# Altium footprint library MLACHM_M.PCBLIB: 91 footprints (part 6 of 7)
Each footprint in its own frame and in the unit in brackets; x right, y up, seen from the top. Pads: shape width x height; smd on the part's side, far side on the other; paste and mask are expansions set on the pad; w line width, h text height; cw(c..) or ccw(c..) is an arc to the next point about the centre after c.
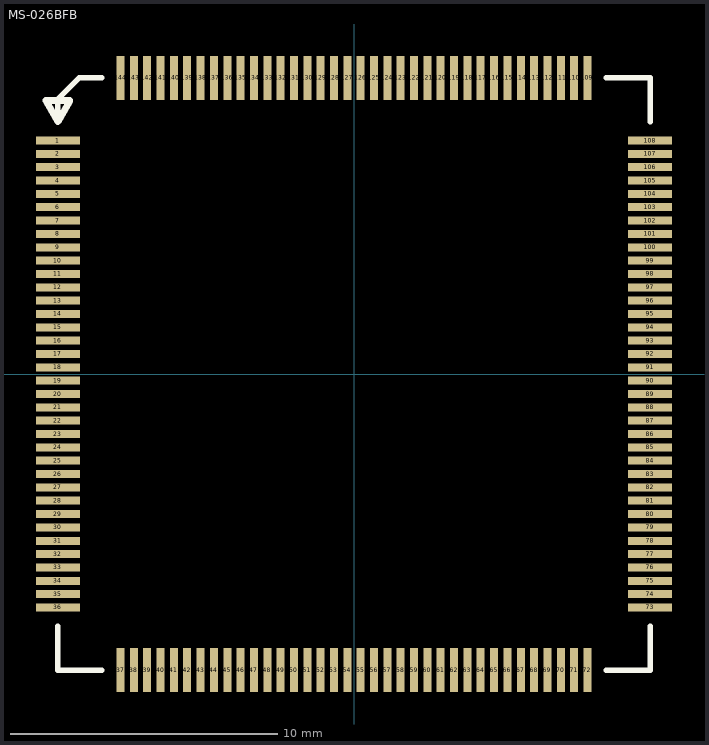
[diagram p5: the footprint, top view; thin cyan lines are the x and y axes]

## MS-026BFB [mm]
pads (144):
  rect 1.651x0.3 smd: 1(-11.1,8.75) 2(-11.1,8.25) 3(-11.1,7.75) 4(-11.1,7.25) 5(-11.1,6.75) 6(-11.1,6.25) 7(-11.1,5.75) 8(-11.1,5.25) 9(-11.1,4.75) 10(-11.1,4.25) 11(-11.1,3.75) 12(-11.1,3.25) 13(-11.1,2.75) 14(-11.1,2.25) 15(-11.1,1.75) 16(-11.1,1.25) 17(-11.1,0.75) 18(-11.1,0.25) 19(-11.1,-0.25) 20(-11.1,-0.75) 21(-11.1,-1.25) 22(-11.1,-1.75) 23(-11.1,-2.25) 24(-11.1,-2.75) 25(-11.1,-3.25) 26(-11.1,-3.75) 27(-11.1,-4.25) 28(-11.1,-4.75) 29(-11.1,-5.25) 30(-11.1,-5.75) 31(-11.1,-6.25) 32(-11.1,-6.75) 33(-11.1,-7.25) 34(-11.1,-7.75) 35(-11.1,-8.25) 36(-11.1,-8.75) 73(11.1,-8.75) 74(11.1,-8.25) 75(11.1,-7.75) 76(11.1,-7.25) 77(11.1,-6.75) 78(11.1,-6.25) 79(11.1,-5.75) 80(11.1,-5.25) 81(11.1,-4.75) 82(11.1,-4.25) 83(11.1,-3.75) 84(11.1,-3.25) 85(11.1,-2.75) 86(11.1,-2.25) 87(11.1,-1.75) 88(11.1,-1.25) 89(11.1,-0.75) 90(11.1,-0.25) 91(11.1,0.25) 92(11.1,0.75) 93(11.1,1.25) 94(11.1,1.75) 95(11.1,2.25) 96(11.1,2.75) 97(11.1,3.25) 98(11.1,3.75) 99(11.1,4.25) 100(11.1,4.75) 101(11.1,5.25) 102(11.1,5.75) 103(11.1,6.25) 104(11.1,6.75) 105(11.1,7.25) 106(11.1,7.75) 107(11.1,8.25) 108(11.1,8.75)
  rect 0.3x1.651 smd: 37(-8.75,-11.1) 38(-8.25,-11.1) 39(-7.75,-11.1) 40(-7.25,-11.1) 41(-6.75,-11.1) 42(-6.25,-11.1) 43(-5.75,-11.1) 44(-5.25,-11.1) 45(-4.75,-11.1) 46(-4.25,-11.1) 47(-3.75,-11.1) 48(-3.25,-11.1) 49(-2.75,-11.1) 50(-2.25,-11.1) 51(-1.75,-11.1) 52(-1.25,-11.1) 53(-0.75,-11.1) 54(-0.25,-11.1) 55(0.25,-11.1) 56(0.75,-11.1) 57(1.25,-11.1) 58(1.75,-11.1) 59(2.25,-11.1) 60(2.75,-11.1) 61(3.25,-11.1) 62(3.75,-11.1) 63(4.25,-11.1) 64(4.75,-11.1) 65(5.25,-11.1) 66(5.75,-11.1) 67(6.25,-11.1) 68(6.75,-11.1) 69(7.25,-11.1) 70(7.75,-11.1) 71(8.25,-11.1) 72(8.75,-11.1) 109(8.75,11.1) 110(8.25,11.1) 111(7.75,11.1) 112(7.25,11.1) 113(6.75,11.1) 114(6.25,11.1) 115(5.75,11.1) 116(5.25,11.1) 117(4.75,11.1) 118(4.25,11.1) 119(3.75,11.1) 120(3.25,11.1) 121(2.75,11.1) 122(2.25,11.1) 123(1.75,11.1) 124(1.25,11.1) 125(0.75,11.1) 126(0.25,11.1) 127(-0.25,11.1) 128(-0.75,11.1) 129(-1.25,11.1) 130(-1.75,11.1) 131(-2.25,11.1) 132(-2.75,11.1) 133(-3.25,11.1) 134(-3.75,11.1) 135(-4.25,11.1) 136(-4.75,11.1) 137(-5.25,11.1) 138(-5.75,11.1) 139(-6.25,11.1) 140(-6.75,11.1) 141(-7.25,11.1) 142(-7.75,11.1) 143(-8.25,11.1) 144(-8.75,11.1)
TopOverlay:
  lines w0.2: -11.1,-9.45 -11.1,-11.1 -9.45,-11.1 ; -11.1,9.45 -11.1,10.3 -10.3,11.1 -9.45,11.1 ; 9.45,-11.1 11.1,-11.1 11.1,-9.45 ; 9.45,11.1 11.1,11.1 11.1,9.45
  lines w0.25: -11.55,10.25 -11.1,9.45 -10.65,10.25 -11.55,10.25
3D body: height 1.2, standoff 0.1, extent -10.3,-10.3 10.3,10.3
3D body: height 0.63, standoff 0.38, extent 8.65,10.25 8.85,10.65
3D body: height 0.63, standoff 0, extent 8.65,10.5 8.85,10.65
3D body: height 0.15, standoff 0, extent 8.65,10.5 8.85,11.25
3D body: height 0.63, standoff 0.38, extent 8.15,10.25 8.35,10.65
3D body: height 0.63, standoff 0, extent 8.15,10.5 8.35,10.65
3D body: height 0.15, standoff 0, extent 8.15,10.5 8.35,11.25
3D body: height 0.15, standoff 0, extent 7.15,10.5 7.35,11.25
3D body: height 0.63, standoff 0, extent 7.15,10.5 7.35,10.65
3D body: height 0.63, standoff 0.38, extent 7.15,10.25 7.35,10.65
3D body: height 0.15, standoff 0, extent 7.65,10.5 7.85,11.25
3D body: height 0.63, standoff 0, extent 7.65,10.5 7.85,10.65
3D body: height 0.63, standoff 0.38, extent 7.65,10.25 7.85,10.65
3D body: height 0.63, standoff 0.38, extent 5.65,10.25 5.85,10.65
3D body: height 0.63, standoff 0, extent 5.65,10.5 5.85,10.65
3D body: height 0.15, standoff 0, extent 5.65,10.5 5.85,11.25
3D body: height 0.63, standoff 0.38, extent 5.15,10.25 5.35,10.65
3D body: height 0.63, standoff 0, extent 5.15,10.5 5.35,10.65
3D body: height 0.15, standoff 0, extent 5.15,10.5 5.35,11.25
3D body: height 0.15, standoff 0, extent 6.15,10.5 6.35,11.25
3D body: height 0.63, standoff 0, extent 6.15,10.5 6.35,10.65
3D body: height 0.63, standoff 0.38, extent 6.15,10.25 6.35,10.65
3D body: height 0.15, standoff 0, extent 6.65,10.5 6.85,11.25
3D body: height 0.63, standoff 0, extent 6.65,10.5 6.85,10.65
3D body: height 0.63, standoff 0.38, extent 6.65,10.25 6.85,10.65
3D body: height 0.63, standoff 0.38, extent 3.65,10.25 3.85,10.65
3D body: height 0.63, standoff 0, extent 3.65,10.5 3.85,10.65
3D body: height 0.15, standoff 0, extent 3.65,10.5 3.85,11.25
3D body: height 0.63, standoff 0.38, extent 3.15,10.25 3.35,10.65
3D body: height 0.63, standoff 0, extent 3.15,10.5 3.35,10.65
3D body: height 0.15, standoff 0, extent 3.15,10.5 3.35,11.25
3D body: height 0.15, standoff 0, extent 4.15,10.5 4.35,11.25
3D body: height 0.63, standoff 0, extent 4.15,10.5 4.35,10.65
3D body: height 0.63, standoff 0.38, extent 4.15,10.25 4.35,10.65
3D body: height 0.15, standoff 0, extent 4.65,10.5 4.85,11.25
3D body: height 0.63, standoff 0, extent 4.65,10.5 4.85,10.65
3D body: height 0.63, standoff 0.38, extent 4.65,10.25 4.85,10.65
3D body: height 0.63, standoff 0.38, extent 1.65,10.25 1.85,10.65
3D body: height 0.63, standoff 0, extent 1.65,10.5 1.85,10.65
3D body: height 0.15, standoff 0, extent 1.65,10.5 1.85,11.25
3D body: height 0.63, standoff 0.38, extent 1.15,10.25 1.35,10.65
3D body: height 0.63, standoff 0, extent 1.15,10.5 1.35,10.65
3D body: height 0.15, standoff 0, extent 1.15,10.5 1.35,11.25
3D body: height 0.15, standoff 0, extent 2.15,10.5 2.35,11.25
3D body: height 0.63, standoff 0, extent 2.15,10.5 2.35,10.65
3D body: height 0.63, standoff 0.38, extent 2.15,10.25 2.35,10.65
3D body: height 0.15, standoff 0, extent 2.65,10.5 2.85,11.25
3D body: height 0.63, standoff 0, extent 2.65,10.5 2.85,10.65
3D body: height 0.63, standoff 0.38, extent 2.65,10.25 2.85,10.65
3D body: height 0.63, standoff 0.38, extent -0.35,10.25 -0.15,10.65
3D body: height 0.63, standoff 0, extent -0.35,10.5 -0.15,10.65
3D body: height 0.15, standoff 0, extent -0.35,10.5 -0.15,11.25
3D body: height 0.63, standoff 0.38, extent -0.85,10.25 -0.65,10.65
3D body: height 0.63, standoff 0, extent -0.85,10.5 -0.65,10.65
3D body: height 0.15, standoff 0, extent -0.85,10.5 -0.65,11.25
3D body: height 0.15, standoff 0, extent 0.15,10.5 0.35,11.25
3D body: height 0.63, standoff 0, extent 0.15,10.5 0.35,10.65
3D body: height 0.63, standoff 0.38, extent 0.15,10.25 0.35,10.65
3D body: height 0.15, standoff 0, extent 0.65,10.5 0.85,11.25
3D body: height 0.63, standoff 0, extent 0.65,10.5 0.85,10.65
3D body: height 0.63, standoff 0.38, extent 0.65,10.25 0.85,10.65
3D body: height 0.63, standoff 0.38, extent -2.35,10.25 -2.15,10.65
3D body: height 0.63, standoff 0, extent -2.35,10.5 -2.15,10.65
3D body: height 0.15, standoff 0, extent -2.35,10.5 -2.15,11.25
3D body: height 0.63, standoff 0.38, extent -2.85,10.25 -2.65,10.65
3D body: height 0.63, standoff 0, extent -2.85,10.5 -2.65,10.65
3D body: height 0.15, standoff 0, extent -2.85,10.5 -2.65,11.25
3D body: height 0.15, standoff 0, extent -1.85,10.5 -1.65,11.25
3D body: height 0.63, standoff 0, extent -1.85,10.5 -1.65,10.65
3D body: height 0.63, standoff 0.38, extent -1.85,10.25 -1.65,10.65
3D body: height 0.15, standoff 0, extent -1.35,10.5 -1.15,11.25
3D body: height 0.63, standoff 0, extent -1.35,10.5 -1.15,10.65
3D body: height 0.63, standoff 0.38, extent -1.35,10.25 -1.15,10.65
3D body: height 0.63, standoff 0.38, extent -4.35,10.25 -4.15,10.65
3D body: height 0.63, standoff 0, extent -4.35,10.5 -4.15,10.65
3D body: height 0.15, standoff 0, extent -4.35,10.5 -4.15,11.25
3D body: height 0.63, standoff 0.38, extent -4.85,10.25 -4.65,10.65
3D body: height 0.63, standoff 0, extent -4.85,10.5 -4.65,10.65
3D body: height 0.15, standoff 0, extent -4.85,10.5 -4.65,11.25
3D body: height 0.15, standoff 0, extent -3.85,10.5 -3.65,11.25
3D body: height 0.63, standoff 0, extent -3.85,10.5 -3.65,10.65
3D body: height 0.63, standoff 0.38, extent -3.85,10.25 -3.65,10.65
3D body: height 0.15, standoff 0, extent -3.35,10.5 -3.15,11.25
3D body: height 0.63, standoff 0, extent -3.35,10.5 -3.15,10.65
3D body: height 0.63, standoff 0.38, extent -3.35,10.25 -3.15,10.65
3D body: height 0.63, standoff 0.38, extent -6.35,10.25 -6.15,10.65
3D body: height 0.63, standoff 0, extent -6.35,10.5 -6.15,10.65
3D body: height 0.15, standoff 0, extent -6.35,10.5 -6.15,11.25
3D body: height 0.63, standoff 0.38, extent -6.85,10.25 -6.65,10.65
3D body: height 0.63, standoff 0, extent -6.85,10.5 -6.65,10.65
3D body: height 0.15, standoff 0, extent -6.85,10.5 -6.65,11.25
3D body: height 0.15, standoff 0, extent -5.85,10.5 -5.65,11.25
3D body: height 0.63, standoff 0, extent -5.85,10.5 -5.65,10.65
3D body: height 0.63, standoff 0.38, extent -5.85,10.25 -5.65,10.65
3D body: height 0.15, standoff 0, extent -5.35,10.5 -5.15,11.25
3D body: height 0.63, standoff 0, extent -5.35,10.5 -5.15,10.65
3D body: height 0.63, standoff 0.38, extent -5.35,10.25 -5.15,10.65
3D body: height 0.63, standoff 0.38, extent -8.35,10.25 -8.15,10.65
3D body: height 0.63, standoff 0, extent -8.35,10.5 -8.15,10.65
3D body: height 0.15, standoff 0, extent -8.35,10.5 -8.15,11.25
3D body: height 0.63, standoff 0.38, extent -8.85,10.25 -8.65,10.65
3D body: height 0.63, standoff 0, extent -8.85,10.5 -8.65,10.65
3D body: height 0.15, standoff 0, extent -8.85,10.5 -8.65,11.25
3D body: height 0.15, standoff 0, extent -7.85,10.5 -7.65,11.25
3D body: height 0.63, standoff 0, extent -7.85,10.5 -7.65,10.65
3D body: height 0.63, standoff 0.38, extent -7.85,10.25 -7.65,10.65
3D body: height 0.15, standoff 0, extent -7.35,10.5 -7.15,11.25
3D body: height 0.63, standoff 0, extent -7.35,10.5 -7.15,10.65
3D body: height 0.63, standoff 0.38, extent -7.35,10.25 -7.15,10.65
3D body: height 0.63, standoff 0.38, extent 10.25,-8.85 10.65,-8.65
3D body: height 0.63, standoff 0, extent 10.5,-8.85 10.65,-8.65
3D body: height 0.15, standoff 0, extent 10.5,-8.85 11.25,-8.65
3D body: height 0.63, standoff 0.38, extent 10.25,-8.35 10.65,-8.15
3D body: height 0.63, standoff 0, extent 10.5,-8.35 10.65,-8.15
3D body: height 0.15, standoff 0, extent 10.5,-8.35 11.25,-8.15
3D body: height 0.15, standoff 0, extent 10.5,-7.35 11.25,-7.15
3D body: height 0.63, standoff 0, extent 10.5,-7.35 10.65,-7.15
3D body: height 0.63, standoff 0.38, extent 10.25,-7.35 10.65,-7.15
3D body: height 0.15, standoff 0, extent 10.5,-7.85 11.25,-7.65
3D body: height 0.63, standoff 0, extent 10.5,-7.85 10.65,-7.65
3D body: height 0.63, standoff 0.38, extent 10.25,-7.85 10.65,-7.65
3D body: height 0.63, standoff 0.38, extent 10.25,-5.85 10.65,-5.65
3D body: height 0.63, standoff 0, extent 10.5,-5.85 10.65,-5.65
3D body: height 0.15, standoff 0, extent 10.5,-5.85 11.25,-5.65
3D body: height 0.63, standoff 0.38, extent 10.25,-5.35 10.65,-5.15
3D body: height 0.63, standoff 0, extent 10.5,-5.35 10.65,-5.15
3D body: height 0.15, standoff 0, extent 10.5,-5.35 11.25,-5.15
3D body: height 0.15, standoff 0, extent 10.5,-6.35 11.25,-6.15
3D body: height 0.63, standoff 0, extent 10.5,-6.35 10.65,-6.15
3D body: height 0.63, standoff 0.38, extent 10.25,-6.35 10.65,-6.15
3D body: height 0.15, standoff 0, extent 10.5,-6.85 11.25,-6.65
3D body: height 0.63, standoff 0, extent 10.5,-6.85 10.65,-6.65
3D body: height 0.63, standoff 0.38, extent 10.25,-6.85 10.65,-6.65
3D body: height 0.63, standoff 0.38, extent 10.25,-3.85 10.65,-3.65
3D body: height 0.63, standoff 0, extent 10.5,-3.85 10.65,-3.65
3D body: height 0.15, standoff 0, extent 10.5,-3.85 11.25,-3.65
3D body: height 0.63, standoff 0.38, extent 10.25,-3.35 10.65,-3.15
3D body: height 0.63, standoff 0, extent 10.5,-3.35 10.65,-3.15
3D body: height 0.15, standoff 0, extent 10.5,-3.35 11.25,-3.15
3D body: height 0.15, standoff 0, extent 10.5,-4.35 11.25,-4.15
3D body: height 0.63, standoff 0, extent 10.5,-4.35 10.65,-4.15
3D body: height 0.63, standoff 0.38, extent 10.25,-4.35 10.65,-4.15
3D body: height 0.15, standoff 0, extent 10.5,-4.85 11.25,-4.65
3D body: height 0.63, standoff 0, extent 10.5,-4.85 10.65,-4.65
3D body: height 0.63, standoff 0.38, extent 10.25,-4.85 10.65,-4.65
3D body: height 0.63, standoff 0.38, extent 10.25,-1.85 10.65,-1.65
3D body: height 0.63, standoff 0, extent 10.5,-1.85 10.65,-1.65
3D body: height 0.15, standoff 0, extent 10.5,-1.85 11.25,-1.65
3D body: height 0.63, standoff 0.38, extent 10.25,-1.35 10.65,-1.15
3D body: height 0.63, standoff 0, extent 10.5,-1.35 10.65,-1.15
3D body: height 0.15, standoff 0, extent 10.5,-1.35 11.25,-1.15
3D body: height 0.15, standoff 0, extent 10.5,-2.35 11.25,-2.15
3D body: height 0.63, standoff 0, extent 10.5,-2.35 10.65,-2.15
3D body: height 0.63, standoff 0.38, extent 10.25,-2.35 10.65,-2.15
3D body: height 0.15, standoff 0, extent 10.5,-2.85 11.25,-2.65
3D body: height 0.63, standoff 0, extent 10.5,-2.85 10.65,-2.65
3D body: height 0.63, standoff 0.38, extent 10.25,-2.85 10.65,-2.65
3D body: height 0.63, standoff 0.38, extent 10.25,0.15 10.65,0.35
3D body: height 0.63, standoff 0, extent 10.5,0.15 10.65,0.35
3D body: height 0.15, standoff 0, extent 10.5,0.15 11.25,0.35
3D body: height 0.63, standoff 0.38, extent 10.25,0.65 10.65,0.85
3D body: height 0.63, standoff 0, extent 10.5,0.65 10.65,0.85
3D body: height 0.15, standoff 0, extent 10.5,0.65 11.25,0.85
3D body: height 0.15, standoff 0, extent 10.5,-0.35 11.25,-0.15
3D body: height 0.63, standoff 0, extent 10.5,-0.35 10.65,-0.15
3D body: height 0.63, standoff 0.38, extent 10.25,-0.35 10.65,-0.15
3D body: height 0.15, standoff 0, extent 10.5,-0.85 11.25,-0.65
3D body: height 0.63, standoff 0, extent 10.5,-0.85 10.65,-0.65
3D body: height 0.63, standoff 0.38, extent 10.25,-0.85 10.65,-0.65
3D body: height 0.63, standoff 0.38, extent 10.25,2.15 10.65,2.35
3D body: height 0.63, standoff 0, extent 10.5,2.15 10.65,2.35
3D body: height 0.15, standoff 0, extent 10.5,2.15 11.25,2.35
3D body: height 0.63, standoff 0.38, extent 10.25,2.65 10.65,2.85
3D body: height 0.63, standoff 0, extent 10.5,2.65 10.65,2.85
3D body: height 0.15, standoff 0, extent 10.5,2.65 11.25,2.85
3D body: height 0.15, standoff 0, extent 10.5,1.65 11.25,1.85
3D body: height 0.63, standoff 0, extent 10.5,1.65 10.65,1.85
3D body: height 0.63, standoff 0.38, extent 10.25,1.65 10.65,1.85
3D body: height 0.15, standoff 0, extent 10.5,1.15 11.25,1.35
3D body: height 0.63, standoff 0, extent 10.5,1.15 10.65,1.35
3D body: height 0.63, standoff 0.38, extent 10.25,1.15 10.65,1.35
3D body: height 0.63, standoff 0.38, extent 10.25,4.15 10.65,4.35
3D body: height 0.63, standoff 0, extent 10.5,4.15 10.65,4.35
3D body: height 0.15, standoff 0, extent 10.5,4.15 11.25,4.35
3D body: height 0.63, standoff 0.38, extent 10.25,4.65 10.65,4.85
3D body: height 0.63, standoff 0, extent 10.5,4.65 10.65,4.85
3D body: height 0.15, standoff 0, extent 10.5,4.65 11.25,4.85
3D body: height 0.15, standoff 0, extent 10.5,3.65 11.25,3.85
3D body: height 0.63, standoff 0, extent 10.5,3.65 10.65,3.85
3D body: height 0.63, standoff 0.38, extent 10.25,3.65 10.65,3.85
3D body: height 0.15, standoff 0, extent 10.5,3.15 11.25,3.35
3D body: height 0.63, standoff 0, extent 10.5,3.15 10.65,3.35
3D body: height 0.63, standoff 0.38, extent 10.25,3.15 10.65,3.35
3D body: height 0.63, standoff 0.38, extent 10.25,6.15 10.65,6.35
3D body: height 0.63, standoff 0, extent 10.5,6.15 10.65,6.35
3D body: height 0.15, standoff 0, extent 10.5,6.15 11.25,6.35
3D body: height 0.63, standoff 0.38, extent 10.25,6.65 10.65,6.85
3D body: height 0.63, standoff 0, extent 10.5,6.65 10.65,6.85
3D body: height 0.15, standoff 0, extent 10.5,6.65 11.25,6.85
3D body: height 0.15, standoff 0, extent 10.5,5.65 11.25,5.85
3D body: height 0.63, standoff 0, extent 10.5,5.65 10.65,5.85
3D body: height 0.63, standoff 0.38, extent 10.25,5.65 10.65,5.85
3D body: height 0.15, standoff 0, extent 10.5,5.15 11.25,5.35
3D body: height 0.63, standoff 0, extent 10.5,5.15 10.65,5.35
3D body: height 0.63, standoff 0.38, extent 10.25,5.15 10.65,5.35
3D body: height 0.63, standoff 0.38, extent 10.25,8.15 10.65,8.35
3D body: height 0.63, standoff 0, extent 10.5,8.15 10.65,8.35
3D body: height 0.15, standoff 0, extent 10.5,8.15 11.25,8.35
3D body: height 0.63, standoff 0.38, extent 10.25,8.65 10.65,8.85
3D body: height 0.63, standoff 0, extent 10.5,8.65 10.65,8.85
3D body: height 0.15, standoff 0, extent 10.5,8.65 11.25,8.85
3D body: height 0.15, standoff 0, extent 10.5,7.65 11.25,7.85
3D body: height 0.63, standoff 0, extent 10.5,7.65 10.65,7.85
3D body: height 0.63, standoff 0.38, extent 10.25,7.65 10.65,7.85
3D body: height 0.15, standoff 0, extent 10.5,7.15 11.25,7.35
3D body: height 0.63, standoff 0, extent 10.5,7.15 10.65,7.35
3D body: height 0.63, standoff 0.38, extent 10.25,7.15 10.65,7.35
3D body: height 0.63, standoff 0.38, extent -8.85,-10.65 -8.65,-10.25
3D body: height 0.63, standoff 0, extent -8.85,-10.65 -8.65,-10.5
3D body: height 0.15, standoff 0, extent -8.85,-11.25 -8.65,-10.5
3D body: height 0.63, standoff 0.38, extent -8.35,-10.65 -8.15,-10.25
3D body: height 0.63, standoff 0, extent -8.35,-10.65 -8.15,-10.5
3D body: height 0.15, standoff 0, extent -8.35,-11.25 -8.15,-10.5
3D body: height 0.15, standoff 0, extent -7.35,-11.25 -7.15,-10.5
3D body: height 0.63, standoff 0, extent -7.35,-10.65 -7.15,-10.5
3D body: height 0.63, standoff 0.38, extent -7.35,-10.65 -7.15,-10.25
3D body: height 0.15, standoff 0, extent -7.85,-11.25 -7.65,-10.5
3D body: height 0.63, standoff 0, extent -7.85,-10.65 -7.65,-10.5
3D body: height 0.63, standoff 0.38, extent -7.85,-10.65 -7.65,-10.25
3D body: height 0.63, standoff 0.38, extent -5.85,-10.65 -5.65,-10.25
3D body: height 0.63, standoff 0, extent -5.85,-10.65 -5.65,-10.5
3D body: height 0.15, standoff 0, extent -5.85,-11.25 -5.65,-10.5
3D body: height 0.63, standoff 0.38, extent -5.35,-10.65 -5.15,-10.25
3D body: height 0.63, standoff 0, extent -5.35,-10.65 -5.15,-10.5
3D body: height 0.15, standoff 0, extent -5.35,-11.25 -5.15,-10.5
3D body: height 0.15, standoff 0, extent -6.35,-11.25 -6.15,-10.5
3D body: height 0.63, standoff 0, extent -6.35,-10.65 -6.15,-10.5
3D body: height 0.63, standoff 0.38, extent -6.35,-10.65 -6.15,-10.25
3D body: height 0.15, standoff 0, extent -6.85,-11.25 -6.65,-10.5
3D body: height 0.63, standoff 0, extent -6.85,-10.65 -6.65,-10.5
3D body: height 0.63, standoff 0.38, extent -6.85,-10.65 -6.65,-10.25
3D body: height 0.63, standoff 0.38, extent -3.85,-10.65 -3.65,-10.25
3D body: height 0.63, standoff 0, extent -3.85,-10.65 -3.65,-10.5
3D body: height 0.15, standoff 0, extent -3.85,-11.25 -3.65,-10.5
3D body: height 0.63, standoff 0.38, extent -3.35,-10.65 -3.15,-10.25
3D body: height 0.63, standoff 0, extent -3.35,-10.65 -3.15,-10.5
3D body: height 0.15, standoff 0, extent -3.35,-11.25 -3.15,-10.5
3D body: height 0.15, standoff 0, extent -4.35,-11.25 -4.15,-10.5
3D body: height 0.63, standoff 0, extent -4.35,-10.65 -4.15,-10.5
3D body: height 0.63, standoff 0.38, extent -4.35,-10.65 -4.15,-10.25
3D body: height 0.15, standoff 0, extent -4.85,-11.25 -4.65,-10.5
3D body: height 0.63, standoff 0, extent -4.85,-10.65 -4.65,-10.5
3D body: height 0.63, standoff 0.38, extent -4.85,-10.65 -4.65,-10.25
3D body: height 0.63, standoff 0.38, extent -1.85,-10.65 -1.65,-10.25
3D body: height 0.63, standoff 0, extent -1.85,-10.65 -1.65,-10.5
3D body: height 0.15, standoff 0, extent -1.85,-11.25 -1.65,-10.5
3D body: height 0.63, standoff 0.38, extent -1.35,-10.65 -1.15,-10.25
3D body: height 0.63, standoff 0, extent -1.35,-10.65 -1.15,-10.5
3D body: height 0.15, standoff 0, extent -1.35,-11.25 -1.15,-10.5
3D body: height 0.15, standoff 0, extent -2.35,-11.25 -2.15,-10.5
3D body: height 0.63, standoff 0, extent -2.35,-10.65 -2.15,-10.5
3D body: height 0.63, standoff 0.38, extent -2.35,-10.65 -2.15,-10.25
3D body: height 0.15, standoff 0, extent -2.85,-11.25 -2.65,-10.5
3D body: height 0.63, standoff 0, extent -2.85,-10.65 -2.65,-10.5
3D body: height 0.63, standoff 0.38, extent -2.85,-10.65 -2.65,-10.25
3D body: height 0.63, standoff 0.38, extent 0.15,-10.65 0.35,-10.25
3D body: height 0.63, standoff 0, extent 0.15,-10.65 0.35,-10.5
3D body: height 0.15, standoff 0, extent 0.15,-11.25 0.35,-10.5
3D body: height 0.63, standoff 0.38, extent 0.65,-10.65 0.85,-10.25
3D body: height 0.63, standoff 0, extent 0.65,-10.65 0.85,-10.5
3D body: height 0.15, standoff 0, extent 0.65,-11.25 0.85,-10.5
3D body: height 0.15, standoff 0, extent -0.35,-11.25 -0.15,-10.5
3D body: height 0.63, standoff 0, extent -0.35,-10.65 -0.15,-10.5
3D body: height 0.63, standoff 0.38, extent -0.35,-10.65 -0.15,-10.25
3D body: height 0.15, standoff 0, extent -0.85,-11.25 -0.65,-10.5
3D body: height 0.63, standoff 0, extent -0.85,-10.65 -0.65,-10.5
3D body: height 0.63, standoff 0.38, extent -0.85,-10.65 -0.65,-10.25
3D body: height 0.63, standoff 0.38, extent 2.15,-10.65 2.35,-10.25
3D body: height 0.63, standoff 0, extent 2.15,-10.65 2.35,-10.5
3D body: height 0.15, standoff 0, extent 2.15,-11.25 2.35,-10.5
3D body: height 0.63, standoff 0.38, extent 2.65,-10.65 2.85,-10.25
3D body: height 0.63, standoff 0, extent 2.65,-10.65 2.85,-10.5
3D body: height 0.15, standoff 0, extent 2.65,-11.25 2.85,-10.5
3D body: height 0.15, standoff 0, extent 1.65,-11.25 1.85,-10.5
3D body: height 0.63, standoff 0, extent 1.65,-10.65 1.85,-10.5
3D body: height 0.63, standoff 0.38, extent 1.65,-10.65 1.85,-10.25
3D body: height 0.15, standoff 0, extent 1.15,-11.25 1.35,-10.5
3D body: height 0.63, standoff 0, extent 1.15,-10.65 1.35,-10.5
3D body: height 0.63, standoff 0.38, extent 1.15,-10.65 1.35,-10.25
3D body: height 0.63, standoff 0.38, extent 4.15,-10.65 4.35,-10.25
3D body: height 0.63, standoff 0, extent 4.15,-10.65 4.35,-10.5
3D body: height 0.15, standoff 0, extent 4.15,-11.25 4.35,-10.5
3D body: height 0.63, standoff 0.38, extent 4.65,-10.65 4.85,-10.25
3D body: height 0.63, standoff 0, extent 4.65,-10.65 4.85,-10.5
3D body: height 0.15, standoff 0, extent 4.65,-11.25 4.85,-10.5
3D body: height 0.15, standoff 0, extent 3.65,-11.25 3.85,-10.5
3D body: height 0.63, standoff 0, extent 3.65,-10.65 3.85,-10.5
3D body: height 0.63, standoff 0.38, extent 3.65,-10.65 3.85,-10.25
3D body: height 0.15, standoff 0, extent 3.15,-11.25 3.35,-10.5
3D body: height 0.63, standoff 0, extent 3.15,-10.65 3.35,-10.5
3D body: height 0.63, standoff 0.38, extent 3.15,-10.65 3.35,-10.25
3D body: height 0.63, standoff 0.38, extent 6.15,-10.65 6.35,-10.25
3D body: height 0.63, standoff 0, extent 6.15,-10.65 6.35,-10.5
3D body: height 0.15, standoff 0, extent 6.15,-11.25 6.35,-10.5
3D body: height 0.63, standoff 0.38, extent 6.65,-10.65 6.85,-10.25
3D body: height 0.63, standoff 0, extent 6.65,-10.65 6.85,-10.5
3D body: height 0.15, standoff 0, extent 6.65,-11.25 6.85,-10.5
3D body: height 0.15, standoff 0, extent 5.65,-11.25 5.85,-10.5
3D body: height 0.63, standoff 0, extent 5.65,-10.65 5.85,-10.5
3D body: height 0.63, standoff 0.38, extent 5.65,-10.65 5.85,-10.25
3D body: height 0.15, standoff 0, extent 5.15,-11.25 5.35,-10.5
3D body: height 0.63, standoff 0, extent 5.15,-10.65 5.35,-10.5
3D body: height 0.63, standoff 0.38, extent 5.15,-10.65 5.35,-10.25
3D body: height 0.63, standoff 0.38, extent 8.15,-10.65 8.35,-10.25
3D body: height 0.63, standoff 0, extent 8.15,-10.65 8.35,-10.5
3D body: height 0.15, standoff 0, extent 8.15,-11.25 8.35,-10.5
3D body: height 0.63, standoff 0.38, extent 8.65,-10.65 8.85,-10.25
3D body: height 0.63, standoff 0, extent 8.65,-10.65 8.85,-10.5
3D body: height 0.15, standoff 0, extent 8.65,-11.25 8.85,-10.5
3D body: height 0.15, standoff 0, extent 7.65,-11.25 7.85,-10.5
3D body: height 0.63, standoff 0, extent 7.65,-10.65 7.85,-10.5
3D body: height 0.63, standoff 0.38, extent 7.65,-10.65 7.85,-10.25
3D body: height 0.15, standoff 0, extent 7.15,-11.25 7.35,-10.5
3D body: height 0.63, standoff 0, extent 7.15,-10.65 7.35,-10.5
3D body: height 0.63, standoff 0.38, extent 7.15,-10.65 7.35,-10.25
3D body: height 0.63, standoff 0.38, extent -10.65,-7.35 -10.25,-7.15
3D body: height 0.63, standoff 0, extent -10.65,-7.35 -10.5,-7.15
3D body: height 0.15, standoff 0, extent -11.25,-7.35 -10.5,-7.15
3D body: height 0.63, standoff 0.38, extent -10.65,-7.85 -10.25,-7.65
3D body: height 0.63, standoff 0, extent -10.65,-7.85 -10.5,-7.65
3D body: height 0.15, standoff 0, extent -11.25,-7.85 -10.5,-7.65
3D body: height 0.15, standoff 0, extent -11.25,-8.85 -10.5,-8.65
3D body: height 0.63, standoff 0, extent -10.65,-8.85 -10.5,-8.65
3D body: height 0.63, standoff 0.38, extent -10.65,-8.85 -10.25,-8.65
3D body: height 0.15, standoff 0, extent -11.25,-8.35 -10.5,-8.15
3D body: height 0.63, standoff 0, extent -10.65,-8.35 -10.5,-8.15
3D body: height 0.63, standoff 0.38, extent -10.65,-8.35 -10.25,-8.15
3D body: height 0.63, standoff 0.38, extent -10.65,-5.35 -10.25,-5.15
3D body: height 0.63, standoff 0, extent -10.65,-5.35 -10.5,-5.15
3D body: height 0.15, standoff 0, extent -11.25,-5.35 -10.5,-5.15
3D body: height 0.63, standoff 0.38, extent -10.65,-5.85 -10.25,-5.65
3D body: height 0.63, standoff 0, extent -10.65,-5.85 -10.5,-5.65
3D body: height 0.15, standoff 0, extent -11.25,-5.85 -10.5,-5.65
3D body: height 0.15, standoff 0, extent -11.25,-6.85 -10.5,-6.65
3D body: height 0.63, standoff 0, extent -10.65,-6.85 -10.5,-6.65
3D body: height 0.63, standoff 0.38, extent -10.65,-6.85 -10.25,-6.65
3D body: height 0.15, standoff 0, extent -11.25,-6.35 -10.5,-6.15
3D body: height 0.63, standoff 0, extent -10.65,-6.35 -10.5,-6.15
3D body: height 0.63, standoff 0.38, extent -10.65,-6.35 -10.25,-6.15
3D body: height 0.63, standoff 0.38, extent -10.65,-3.35 -10.25,-3.15
3D body: height 0.63, standoff 0, extent -10.65,-3.35 -10.5,-3.15
3D body: height 0.15, standoff 0, extent -11.25,-3.35 -10.5,-3.15
3D body: height 0.63, standoff 0.38, extent -10.65,-3.85 -10.25,-3.65
3D body: height 0.63, standoff 0, extent -10.65,-3.85 -10.5,-3.65
3D body: height 0.15, standoff 0, extent -11.25,-3.85 -10.5,-3.65
3D body: height 0.15, standoff 0, extent -11.25,-4.85 -10.5,-4.65
3D body: height 0.63, standoff 0, extent -10.65,-4.85 -10.5,-4.65
3D body: height 0.63, standoff 0.38, extent -10.65,-4.85 -10.25,-4.65
3D body: height 0.15, standoff 0, extent -11.25,-4.35 -10.5,-4.15
3D body: height 0.63, standoff 0, extent -10.65,-4.35 -10.5,-4.15
3D body: height 0.63, standoff 0.38, extent -10.65,-4.35 -10.25,-4.15
3D body: height 0.63, standoff 0.38, extent -10.65,-1.35 -10.25,-1.15
3D body: height 0.63, standoff 0, extent -10.65,-1.35 -10.5,-1.15
3D body: height 0.15, standoff 0, extent -11.25,-1.35 -10.5,-1.15
3D body: height 0.63, standoff 0.38, extent -10.65,-1.85 -10.25,-1.65
3D body: height 0.63, standoff 0, extent -10.65,-1.85 -10.5,-1.65
3D body: height 0.15, standoff 0, extent -11.25,-1.85 -10.5,-1.65
3D body: height 0.15, standoff 0, extent -11.25,-2.85 -10.5,-2.65
3D body: height 0.63, standoff 0, extent -10.65,-2.85 -10.5,-2.65
3D body: height 0.63, standoff 0.38, extent -10.65,-2.85 -10.25,-2.65
3D body: height 0.15, standoff 0, extent -11.25,-2.35 -10.5,-2.15
3D body: height 0.63, standoff 0, extent -10.65,-2.35 -10.5,-2.15
3D body: height 0.63, standoff 0.38, extent -10.65,-2.35 -10.25,-2.15
3D body: height 0.63, standoff 0.38, extent -10.65,0.65 -10.25,0.85
3D body: height 0.63, standoff 0, extent -10.65,0.65 -10.5,0.85
3D body: height 0.15, standoff 0, extent -11.25,0.65 -10.5,0.85
3D body: height 0.63, standoff 0.38, extent -10.65,0.15 -10.25,0.35
3D body: height 0.63, standoff 0, extent -10.65,0.15 -10.5,0.35
3D body: height 0.15, standoff 0, extent -11.25,0.15 -10.5,0.35
3D body: height 0.15, standoff 0, extent -11.25,-0.85 -10.5,-0.65
3D body: height 0.63, standoff 0, extent -10.65,-0.85 -10.5,-0.65
3D body: height 0.63, standoff 0.38, extent -10.65,-0.85 -10.25,-0.65
3D body: height 0.15, standoff 0, extent -11.25,-0.35 -10.5,-0.15
3D body: height 0.63, standoff 0, extent -10.65,-0.35 -10.5,-0.15
3D body: height 0.63, standoff 0.38, extent -10.65,-0.35 -10.25,-0.15
3D body: height 0.63, standoff 0.38, extent -10.65,2.65 -10.25,2.85
3D body: height 0.63, standoff 0, extent -10.65,2.65 -10.5,2.85
3D body: height 0.15, standoff 0, extent -11.25,2.65 -10.5,2.85
3D body: height 0.63, standoff 0.38, extent -10.65,2.15 -10.25,2.35
3D body: height 0.63, standoff 0, extent -10.65,2.15 -10.5,2.35
3D body: height 0.15, standoff 0, extent -11.25,2.15 -10.5,2.35
3D body: height 0.15, standoff 0, extent -11.25,1.15 -10.5,1.35
3D body: height 0.63, standoff 0, extent -10.65,1.15 -10.5,1.35
3D body: height 0.63, standoff 0.38, extent -10.65,1.15 -10.25,1.35
3D body: height 0.15, standoff 0, extent -11.25,1.65 -10.5,1.85
3D body: height 0.63, standoff 0, extent -10.65,1.65 -10.5,1.85
3D body: height 0.63, standoff 0.38, extent -10.65,1.65 -10.25,1.85
3D body: height 0.63, standoff 0.38, extent -10.65,4.65 -10.25,4.85
3D body: height 0.63, standoff 0, extent -10.65,4.65 -10.5,4.85
3D body: height 0.15, standoff 0, extent -11.25,4.65 -10.5,4.85
3D body: height 0.63, standoff 0.38, extent -10.65,4.15 -10.25,4.35
3D body: height 0.63, standoff 0, extent -10.65,4.15 -10.5,4.35
3D body: height 0.15, standoff 0, extent -11.25,4.15 -10.5,4.35
3D body: height 0.15, standoff 0, extent -11.25,3.15 -10.5,3.35
3D body: height 0.63, standoff 0, extent -10.65,3.15 -10.5,3.35
3D body: height 0.63, standoff 0.38, extent -10.65,3.15 -10.25,3.35
3D body: height 0.15, standoff 0, extent -11.25,3.65 -10.5,3.85
3D body: height 0.63, standoff 0, extent -10.65,3.65 -10.5,3.85
3D body: height 0.63, standoff 0.38, extent -10.65,3.65 -10.25,3.85
3D body: height 0.63, standoff 0.38, extent -10.65,6.65 -10.25,6.85
3D body: height 0.63, standoff 0, extent -10.65,6.65 -10.5,6.85
3D body: height 0.15, standoff 0, extent -11.25,6.65 -10.5,6.85
3D body: height 0.63, standoff 0.38, extent -10.65,6.15 -10.25,6.35
3D body: height 0.63, standoff 0, extent -10.65,6.15 -10.5,6.35
3D body: height 0.15, standoff 0, extent -11.25,6.15 -10.5,6.35
3D body: height 0.15, standoff 0, extent -11.25,5.15 -10.5,5.35
3D body: height 0.63, standoff 0, extent -10.65,5.15 -10.5,5.35
3D body: height 0.63, standoff 0.38, extent -10.65,5.15 -10.25,5.35
3D body: height 0.15, standoff 0, extent -11.25,5.65 -10.5,5.85
3D body: height 0.63, standoff 0, extent -10.65,5.65 -10.5,5.85
3D body: height 0.63, standoff 0.38, extent -10.65,5.65 -10.25,5.85
3D body: height 0.63, standoff 0.38, extent -10.65,7.65 -10.25,7.85
3D body: height 0.63, standoff 0, extent -10.65,7.65 -10.5,7.85
3D body: height 0.15, standoff 0, extent -11.25,7.65 -10.5,7.85
3D body: height 0.63, standoff 0.38, extent -10.65,7.15 -10.25,7.35
3D body: height 0.63, standoff 0, extent -10.65,7.15 -10.5,7.35
3D body: height 0.15, standoff 0, extent -11.25,7.15 -10.5,7.35
3D body: height 0.15, standoff 0, extent -11.25,8.15 -10.5,8.35
3D body: height 0.63, standoff 0, extent -10.65,8.15 -10.5,8.35
3D body: height 0.63, standoff 0.38, extent -10.65,8.15 -10.25,8.35
3D body: height 0.15, standoff 0, extent -11.25,8.65 -10.5,8.85
3D body: height 0.63, standoff 0, extent -10.65,8.65 -10.5,8.85
3D body: height 0.63, standoff 0.38, extent -10.65,8.65 -10.25,8.85